# Altium schematic symbol library SCH - CONNECTORS - OOTDTY MICROSD.SCHLIB: 1 symbol
Pins are listed as number, name and electrical type; pins without a type are passive.

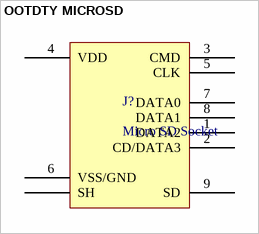
[diagram p0: symbol OOTDTY MICROSD]

## OOTDTY MICROSD
designator J?, comment Micro SD Socket
footprint OOTDTY Y98E7HH800293 (Micro SD Card, TF Card, Memory Card Connector, 9-Leads, Body 16.44x15.6 mm, 1.4mm Profile SMT, Push-Push (MEM2055/MEM2075))
pins: 1 DATA2, 2 CD/DATA3, 3 CMD, 4 VDD, 5 CLK, 6 VSS/GND, 7 DATA0, 8 DATA1, 9 SD, SH